# EAGLE library part HEADER-1X6 (library microbuilder)
PIN HEADER
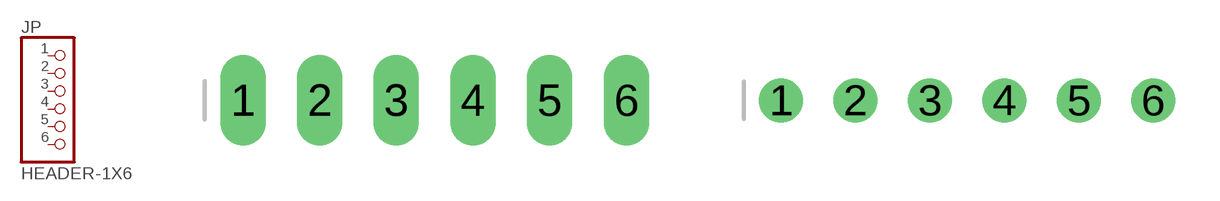
[diagram p5: symbol with the pads of 1X06_OVAL; footprints 1X06_OVAL, 1X06_ROUND]

Designator prefix JP

## HEADER-1X6  [1X06_OVAL]
1  1  pas
2  2  pas
3  3  pas
4  4  pas
5  5  pas
6  6  pas

## HEADER-1X6ROUND  [1X06_ROUND]
Pads as for 1X06_OVAL

## HEADER-1X6SMT  [1X06_SMT]
Pads as for 1X06_OVAL

## Footprint 1X06_OVAL (pad centres in mm)
PIN HEADER
drill 1 long: 1 -6.35,0; 2 -3.81,0; 3 -1.27,0; 4 1.27,0; 5 3.81,0; 6 6.35,0

## Footprint 1X06_ROUND (pad centres in mm)
PIN HEADER
drill 1 round: 1 -6.35,0; 2 -3.81,0; 3 -1.27,0; 4 1.27,0; 5 3.81,0; 6 6.35,0

## Footprint 1X06_SMT (pad centres in mm)
Pin Headers 6 Pin, 0.1"/2.54mm pitch, SMT
smd 1 x 3.5: 1 -6.35,1.27; 2 -3.81,-1.27; 3 -1.27,1.27; 4 1.27,-1.27; 5 3.81,1.27; 6 6.35,-1.27